# Altium schematic symbol library Pill_STM32F405.SchLib: 9 symbols
Pins are listed as number, name and electrical type; pins without a type are passive.

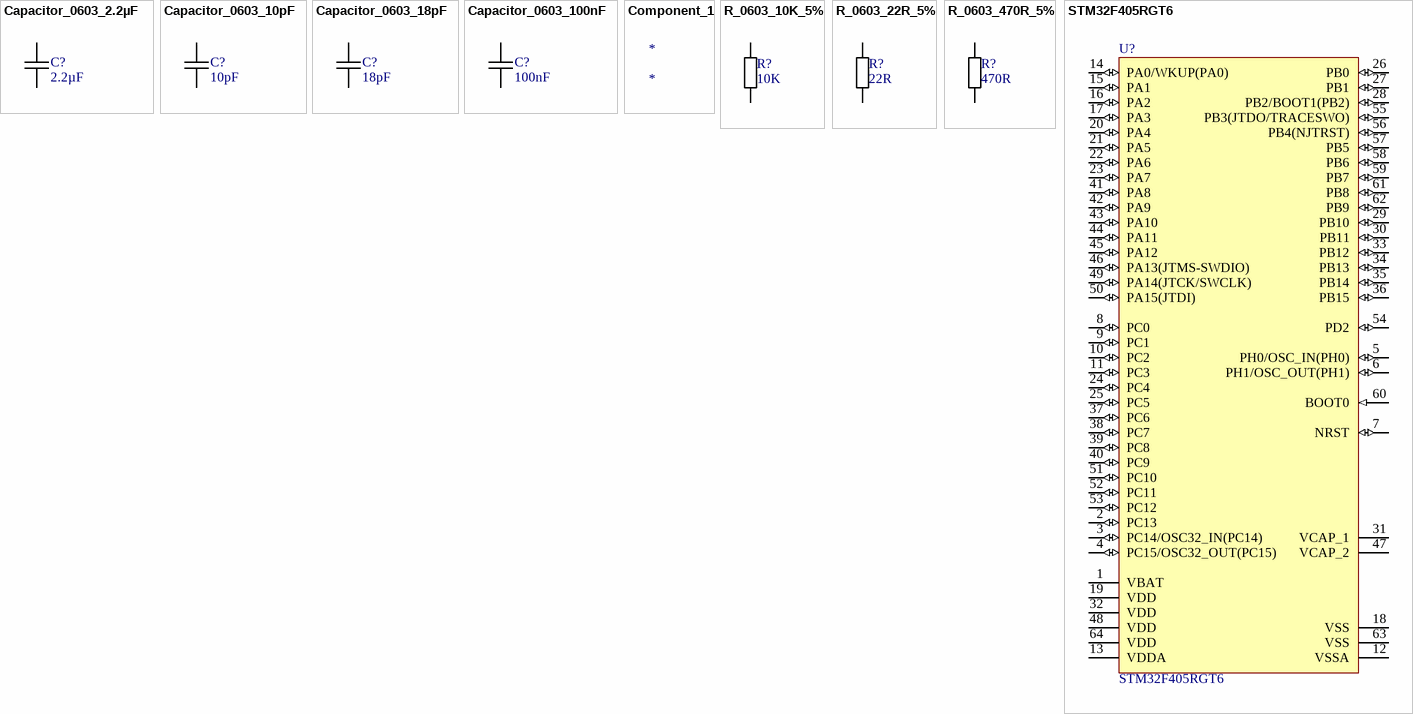
[diagram p0: symbols Capacitor_0603_2.2µF to STM32F405RGT6]

## Capacitor_0603_2.2µF
designator C?, comment 2.2µF
Capacitor 0603 2.2µF 6.3V; Manufacturer: TDK Corporation; Manufacturer PN: CGA3E1X7R0J225K080AC; Tolerance: ±10%; Temperature Coefficient: X7R; Value: 2.2µF; Voltage - Rated: 6.3V; URL Digi-Key: https://www.digikey.com/en/products/detail/tdk-corporation/CGA3E1X7R0J225K080AC/2672826?s=N4IgTCBcDaIMIHECCBmAogRgBoHYBKGaYYArANIAMAHBUnCALoC%2BQA; Operating Temperature: -55°C ~ 125°C; Features: Automotive
footprint 0603-CAP
pins: 1, 2

## Capacitor_0603_10pF
designator C?, comment 10pF
Capacitor 0603 10pF 100V; Manufacturer: TDK Corporation; Manufacturer PN: CGA3E2C0G2A100D080AA; Tolerance: ±0.5%; Temperature Coefficient: C0G, NP0; Value: 10pF; Voltage - Rated: 100V; URL Digi-Key: https://www.digikey.com/product-detail/en/tdk-corporation/CGA3E2C0G2A100D080AA/445-12318-1-ND/3953984; Operating Temperature: -55°C ~ 125°C; Features: Automotive
footprint 0603-CAP
pins: 1, 2

## Capacitor_0603_18pF
designator C?, comment 18pF
Capacitor 0603 18pF 100V; Manufacturer: TDK Corporation; Manufacturer PN: CGA3E2C0G2A180J080AA; Tolerance: ±5%; Temperature Coefficient: C0G, NP0; Value: 18pF; Voltage - Rated: 100V; URL Digi-Key: https://www.digikey.com/product-detail/en/tdk-corporation/CGA3E2C0G2A180J080AA/445-12321-1-ND/3953987; Operating Temperature: -55°C ~ 125°C; Features: Automotive
footprint 0603-CAP
pins: 1, 2

## Capacitor_0603_100nF
designator C?, comment 100nF
Capacitor 0603 100nF 50V; Manufacturer: TDK Corporation; Manufacturer PN: CGA3E2X7R1H104K080AA; Tolerance: ±10%; Temperature Coefficient: X7R; Value: 100nF; Voltage - Rated: 50V; URL Digi-Key: https://www.digikey.com/product-detail/en/tdk-corporation/CGA3E2X7R1H104K080AA/445-5666-1-ND/2443706; Operating Temperature: -55°C ~ 125°C; Features: Automotive
footprint 0603-CAP
pins: 1, 2

## Component_1
designator *
URL Digi-Key: *; Manufacturer PN: *; Manufacturer: *; Datasheet: *; Value: *; Tolerance: *; Voltage - Rated: *; Temperature Coefficient: *; Operating Temperature: *; Features: *; Capacitance: *; Power (Watts): *

## R_0603_10K_5%
designator R?, comment 10K
Resistors 0603 5%; Manufacturer: Panasonic Electronic Components; Manufacturer PN: ERJ-3GEYJ103V; Temperature Coefficient: ±200ppm/°C; Power (Watts): 0.1W, 1/10W; Value: 10K; Tolerance: 5%; URL Digi-Key: https://www.digikey.com/product-detail/en/panasonic-electronic-components/ERJ-3GEYJ103V/P10KGCT-ND/134717; Features: Automotive AEC-Q200
footprint 0603-RES
pins: 1, 2

## R_0603_22R_5%
designator R?, comment 22R
Resistors 0603 5%; Manufacturer: Panasonic Electronic Components; Manufacturer PN: ERJ-3GEYJ220V; Temperature Coefficient: ±200ppm/°C; Power (Watts): 0.1W, 1/10W; Value: 22R; Tolerance: 5%; URL Digi-Key: https://www.digikey.com/product-detail/en/panasonic-electronic-components/ERJ-3GEYJ220V/P22GCT-ND/134662; Features: Automotive AEC-Q200
footprint 0603-RES
pins: 1, 2

## R_0603_470R_5%
designator R?, comment 470R
Resistors 0603 5%; Manufacturer: Panasonic Electronic Components; Manufacturer PN: ERJ-3GEYJ471V; Temperature Coefficient: ±200ppm/°C; Power (Watts): 0.1W, 1/10W; Value: 470R; Tolerance: 5%; URL Digi-Key: https://www.digikey.com/product-detail/en/panasonic-electronic-components/ERJ-3GEYJ471V/P470GCT-ND/134802; Features: Automotive AEC-Q200
footprint 0603-RES
pins: 1, 2

## STM32F405RGT6
designator U?
ARM Cortex-M4 32-bit MCU+FPU, 1024 KB Flash, 192 KB Internal RAM, 51 I/Os, 64-Pin LQFP, -40 to 85 degC, Tape and Reel; Manufacturer: STMicroelectronics; Internal RAM Size (kB): 192; FLASH Size (Prog) (kB): 1024; Supply Voltage(Vcc) min (V): 1.8; D/A Converter: 2; Operating Frequency(F) (Processor speed) (MHz): 168; I/Os (High Current): 51; DatasheetVersion: Rev. 6; Package Description: LQFP64; ComponentLink2Description: Datasheet; ComponentLink1Description: Manufacturer URL; Packing: Tape and Reel; Mounting Technology: Surface Mount; Package Reference: 64-Pin Low-profile Quad Flat Package, Body 10 x 10 mm, Pitch 0.5 mm; ComponentLink2URL: http://www.st.com/st-web-ui/static/active/en/resource/technical/document/datasheet/DM00037051.pdf; ComponentLink1URL: http://www.st.com/; Core: ARM Cortex-M4; URL Digi-Key: https://www.digikey.com/product-detail/en/stmicroelectronics/STM32F405RGT6/497-11767-ND/2754208; Manufacturer PN: STM32F405RGT6
footprint LQFP64
pins: 1 VBAT (power), 2 PC13 (io) "PC13/EVENTOUT/RTC_OUT,RTC_TAMP1,RTC_TS", 3 PC14/OSC32_IN(PC14) (io) "PC14/EVENTOUT/OSC32_IN", 4 PC15/OSC32_OUT(PC15) (io) "PC15/EVENTOUT/OSC32_OUT", 5 PH0/OSC_IN(PH0) (io) "PH0/EVENTOUT/OSC_IN", 6 PH1/OSC_OUT(PH1) (io) "PH1/EVENTOUT/OSC_OUT", 7 NRST (io), 8 PC0 (io) "PC0/OTG_HS_ULPI_STP/EVENTOUT/ADC123_IN10", 9 PC1 (io) "PC1/ETH_MDC/EVENTOUT/ADC123_IN11", 10 PC2 (io) "PC2/SPI2_MISO/OTG_HS_ULPI_DIR/ETH_MII_TXD2/I2S2EXT_SD/EVENTOUT/ADC123_IN12", 11 PC3 (io) "PC3/SPI2_MOSI/I2S2_SD/OTG_HS_ULPI_NXT/ETH_MII_TX_CLK/EVENTOUT/ADC123_IN13", 12 VSSA (power), 13 VDDA (power), 14 PA0/WKUP(PA0) (io) "PA0/WKUP(PA0)/USART2_CTS/UART4_TX/ETH_MII_CRS/TIM2_CH1_ETR/TIM5_CH1/TIM8_ETR/EVENTOUT/ADC123_IN0/WKUP", 15 PA1 (io) "PA1/USART2_RTS/UART4_RX/ETH_RMII_REF_CLK/ETH_MII_RX_CLK/TIM5_CH2/TIM2_CH2/EVENTOUT/ADC123_IN1", 16 PA2 (io) "PA2/USART2_TX/TIM5_CH3/TIM9_CH1/TIM2_CH3/ETH_MDIO/EVENTOUT/ADC123_IN2", 17 PA3 (io) "PA3/USART2_RX/TIM5_CH4/TIM9_CH2/TIM2_CH4/OTG_HS_ULPI_D0/ETH_MII_COL/EVENTOUT/ADC123_IN3", 18 VSS (power), 19 VDD (power), 20 PA4 (io) "PA4/SPI1_NSS/SPI3_NSS/USART2_CK/DCMI_HSYNC/OTG_HS_SOF/I2S3_WS/EVENTOUT/ADC12_IN4/DAC_OUT1", 21 PA5 (io) "PA5/SPI1_SCK/OTG_HS_ULPI_CK/TIM2_CH1_ETR/TIM8_CH1N/EVENTOUT/ADC12_IN5/DAC_OUT2", 22 PA6 (io) "PA6/SPI1_MISO/TIM8_BKIN/TIM13_CH1/DCMI_PIXCLK/TIM3_CH1/TIM1_BKIN/EVENTOUT/ADC12_IN6", 23 PA7 (io) "PA7/SPI1_MOSI/TIM8_CH1N/TIM14_CH1/TIM3_CH2/ETH_MII_RX_DV/TIM1_CH1N/ETH_RMII_CRS_DV/EVENTOUT/ADC12_IN7", 24 PC4 (io) "PC4/ETH_RMII_RX_D0/ETH_MII_RX_D0/EVENTOUT/ADC12_IN14", 25 PC5 (io) "PC5/ETH_RMII_RX_D1/ETH_MII_RX_D1/EVENTOUT/ADC12_IN15", 26 PB0 (io) "PB0/TIM3_CH3/TIM8_CH2N/OTG_HS_ULPI_D1/ETH_MII_RXD2/TIM1_CH2N/EVENTOUT/ADC12_IN8", 27 PB1 (io) "PB1/TIM3_CH4/TIM8_CH3N/OTG_HS_ULPI_D2/ETH_MII_RXD3/TIM1_CH3N/EVENTOUT/ADC12_IN9", 28 PB2/BOOT1(PB2) (io) "PB2/BOOT1(PB2)/EVENTOUT", 29 PB10 (io) "PB10/SPI2_SCK/I2S2_CK/I2C2_SCL/USART3_TX/OTG_HS_ULPI_D3/ETH_MII_RX_ER/TIM2_CH3/EVENTOUT", 30 PB11 (io) "PB11/I2C2_SDA/USART3_RX/OTG_HS_ULPI_D4/ETH_RMII_TX_EN/ETH_MII_TX_EN/TIM2_CH4/EVENTOUT", 31 VCAP_1, 32 VDD (power), 33 PB12 (io) "PB12/SPI2_NSS/I2S2_WS/I2C2_SMBA/USART3_CK/TIM1_BKIN/CAN2_RX/OTG_HS_ULPI_D5/ETH_RMII_TXD0/ETH_MII_TXD0/OTG_HS_ID/EVENTOUT", 34 PB13 (io) "PB13/SPI2_SCK/I2S2_CK/USART3_CTS/TIM1_CH1N/CAN2_TX/OTG_HS_ULPI_D6/ETH_RMII_TXD1/ETH_MII_TXD1/EVENTOUT/OTG_HS_VBUS", 35 PB14 (io) "PB14/SPI2_MISO/TIM1_CH2N/TIM12_CH1/OTG_HS_DM/USART3_RTS/TIM8_CH2N/I2S2EXT_SD/EVENTOUT", 36 PB15 (io) "PB15/SPI2_MOSI/I2S2_SD/TIM1_CH3N/TIM8_CH3N/TIM12_CH2/OTG_HS_DP/EVENTOUT/RTC_REFIN", 37 PC6 (io) "PC6/I2S2_MCK/TIM8_CH1/SDIO_D6/USART6_TX/DCMI_D0/TIM3_CH1/EVENTOUT", 38 PC7 (io) "PC7/I2S3_MCK/TIM8_CH2/SDIO_D7/USART6_RX/DCMI_D1/TIM3_CH2/EVENTOUT", 39 PC8 (io) "PC8/TIM8_CH3/SDIO_D0/TIM3_CH3/USART6_CK/DCMI_D2/EVENTOUT", 40 PC9 (io) "PC9/I2S_CKIN/MCO2/TIM8_CH4/SDIO_D1//I2C3_SDA/DCMI_D3/TIM3_CH4/EVENTOUT", 41 PA8 (io) "PA8/MCO1/USART1_CK/TIM1_CH1/I2C3_SCL/OTG_FS_SOF/EVENTOUT", 42 PA9 (io) "PA9/USART1_TX/TIM1_CH2/I2C3_SMBA/DCMI_D0/EVENTOUT/OTG_FS_VBUS", 43 PA10 (io) "PA10/USART1_RX/TIM1_CH3/OTG_FS_ID/DCMI_D1/EVENTOUT", 44 PA11 (io) "PA11/USART1_CTS/CAN1_RX/TIM1_CH4/OTG_FS_DM/EVENTOUT", 45 PA12 (io) "PA12/USART1_RTS/CAN1_TX/TIM1_ETR/OTG_FS_DP/EVENTOUT", 46 PA13(JTMS-SWDIO) (io) "PA13/JTMS-SWDIO/EVENTOUT", 47 VCAP_2, 48 VDD (power), 49 PA14(JTCK/SWCLK) (io) "PA14/JTCK-SWCLK/EVENTOUT", 50 PA15(JTDI) (io) "PA15/JTDI/SPI3_NSS/I2S3_WS/TIM2_CH1_ETR/SPI1_NSS/EVENTOUT", 51 PC10 (io) "PC10/SPI3_SCK/I2S3_CK/UART4_TX/SDIO_D2/DCMI_D8/USART3_TX/EVENTOUT", 52 PC11 (io) "PC11/UART4_RX/SPI3_MISO/SDIO_D3/DCMI_D4/USART3_RX/I2S3EXT_SD/EVENTOUT", 53 PC12 (io) "PC12/UART5_TX/SDIO_CK/DCMI_D9/SPI3_MOSI/I2S3_SD/USART3_CK/EVENTOUT", 54 PD2 (io) "PD2/TIM3_ETR/UART5_RX/SDIO_CMD/DCMI_D11/EVENTOUT", 55 PB3(JTDO/TRACESWO) (io) "PB3/JTDO/TRACESWO/SPI3_SCK/I2S3_CK/TIM2_CH2/SPI1_SCK/EVENTOUT", 56 PB4(NJTRST) (io) "PB4/NJTRST/SPI3_MISO/TIM3_CH1/SPI1_MISO/I2S3EXT_SD/EVENTOUT", 57 PB5 (io) "PB5/I2C1_SMBA/CAN2_RX/OTG_HS_ULPI_D7/ETH_PPS_OUT/TIM3_CH2/SPI1_MOSI/SPI3_MOSI/DCMI_D10/I2S3_SD/EVENTOUT", 58 PB6 (io) "PB6/I2C1_SCL/TIM4_CH1/CAN2_TX/DCMI_D5/USART1_TX/EVENTOUT", 59 PB7 (io) "PB7/I2C1_SDA/FSMC_NL/DCMI_VSYNC/USART1_RX/TIM4_CH2/EVENTOUT", 60 BOOT0 (in) "BOOT0/VPP", 61 PB8 (io) "PB8/TIM4_CH3/SDIO_D4/TIM10_CH1/DCMI_D6/ETH_MII_TXD3/I2C1_SCL/CAN1_RX/EVENTOUT", 62 PB9 (io) "PB9/SPI2_NSS/I2S2_WS/TIM4_CH4/TIM11_CH1/SDIO_D5/DCMI_D7/I2C1_SDA/CAN1_TX/EVENTOUT", 63 VSS (power), 64 VDD (power)